# Altium schematic symbol library MCU_Renesas_Synergy_S1.SchLib: 1 symbol
Pins are listed as number, name and electrical type; pins without a type are passive.

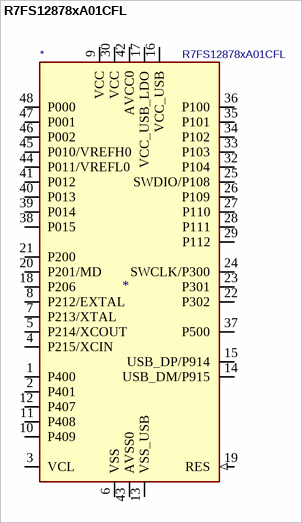
[diagram p0: symbol R7FS12878xA01CFL]

## R7FS12878xA01CFL
designator *  value R7FS12878xA01CFL
ki_keywords: 32-bit ARM Cortex-M0+ MCU Microcontroller; ki_description: ARM Cortex-M0+ MCU, 32MHz, 256KB Flash, 24KB RAM, 1.65-3.6V, 37 GPIO, LQFP-48; ki_fp_filters: LQFP*7x7mm*P0.5mm*; Footprint: Package_QFP:LQFP-48_7x7mm_P0.5mm; Supplier: https://www.renesas.com/us/en/doc/products/renesas-synergy/doc/r01ds0309eu0100-synergy-s128.pdf
footprint LQFP-48_7x7mm_P0.5mm
pins: 1 P400 (io), 2 P401 (io), 3 VCL, 4 P215/XCIN (io), 5 P214/XCOUT (io), 6 VSS (power), 7 P213/XTAL (io), 8 P212/EXTAL (io), 9 VCC (power), 10 P409 (io), 11 P408 (io), 12 P407 (io), 13 VSS_USB (power), 14 USB_DM/P915 (io), 15 USB_DP/P914 (io), 16 VCC_USB (power), 17 VCC_USB_LDO (power), 18 P206 (io), 19 RES (in), 20 P201/MD (io), 21 P200 (io), 22 P302 (io), 23 P301 (io), 24 SWCLK/P300 (io), 25 SWDIO/P108 (io), 26 P109 (io), 27 P110 (io), 28 P111 (io), 29 P112 (io), 30 VCC (power), 31 VSS hidden, 32 P104 (io), 33 P103 (io), 34 P102 (io), 35 P101 (io), 36 P100 (io), 37 P500 (io), 38 P015 (io), 39 P014 (io), 40 P013 (io), 41 P012 (io), 42 AVCC0 (power), 43 AVSS0 (power), 44 P011/VREFL0 (io), 45 P010/VREFH0 (io), 46 P002 (io), 47 P001 (io), 48 P000 (io)